# Altium footprint library PEI_PCB_1.1.PcbLib: 310 footprints (part 9 of 20)
Each footprint in its own frame and in the unit in brackets; x right, y up, seen from the top. Pads: shape width x height; smd on the part's side, far side on the other; paste and mask are expansions set on the pad; w line width, h text height; cw(c..) or ccw(c..) is an arc to the next point about the centre after c.
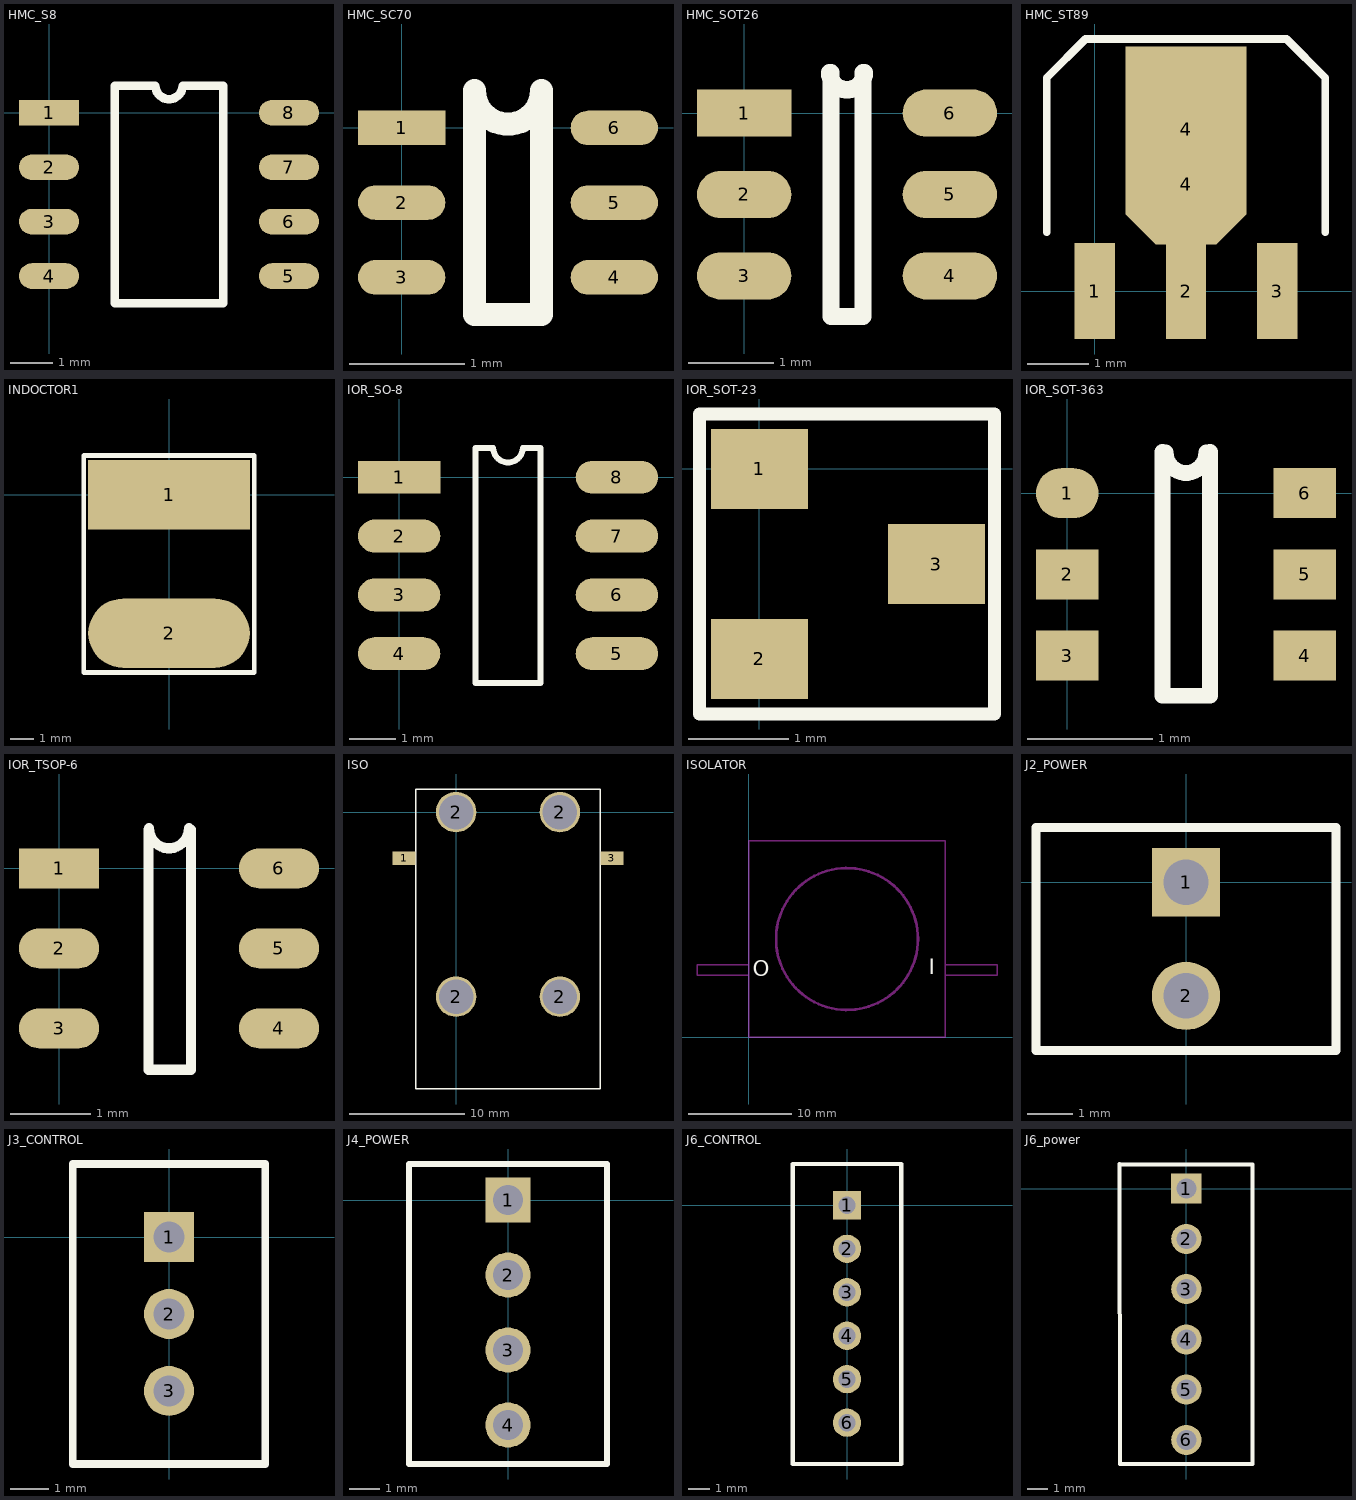
[diagram p8: the footprints below, top view; thin cyan lines are the x and y axes]

## HMC_S8 [mm]
pads (8):
  rect 1.4x0.6 smd: 1(0,0)
  oval 1.4x0.6 smd: 2(0,-1.27) 3(0,-2.54) 4(0,-3.81) 5(5.6,-3.81) 6(5.6,-2.54) 7(5.6,-1.27) 8(5.6,0)
TopOverlay:
  lines w0.2: 1.535,-4.445 1.535,0.635 2.482,0.635 ccw(c2.8,0.635) 3.117,0.635 4.065,0.635 4.065,-4.445 1.535,-4.445

## HMC_SC70 [mm]
pads (6):
  rect 0.76x0.3 smd: 1(0,0)
  oval 0.76x0.3 smd: 2(0,-0.65) 3(0,-1.3) 4(1.85,-1.3) 5(1.85,-0.65) 6(1.85,0)
TopOverlay:
  lines w0.2: 0.633,0.325 ccw(c0.925,0.325) 1.217,0.325 ; 0.635,0.325 0.635,-1.625 1.215,-1.625 1.215,0.325

## HMC_SOT26 [mm]
pads (6):
  rect 1.1x0.55 smd: 1(0,0)
  oval 1.1x0.55 smd: 2(0,-0.95) 3(0,-1.9) 4(2.4,-1.9) 5(2.4,-0.95) 6(2.4,0)
TopOverlay:
  lines w0.2: 0.997,0.475 ccw(c1.2,0.475) 1.403,0.475 ; 1.015,0.475 1.015,-2.375 1.385,-2.375 1.385,0.475

## HMC_ST89 [mil]
pads (5):
  rect 26x62 smd: 1(0,0) 2(59,0) 3(118,0)
  oct 78x78 smd: 4(59,69)
  rect 78x107 smd: 4(59,104.5)
TopOverlay:
  lines w5: -31,38 -31,138 -6,163 6,163 124,163 149,138 149,38

## INDOCTOR1 [mm]
pads (2):
  rect 7x3 smd: 1(0,0)
  oval 7x3 smd: 2(0,-6)
TopOverlay:
  lines w0.2: -3.7,-7.7 3.7,-7.7 3.7,1.7 -3.7,1.7 -3.7,-7.7

## IOR_SO-8 [mil]
pads (8):
  rect 70x28 smd: 1(0,0)
  oval 70x28 smd: 2(0,-50) 3(0,-100) 4(0,-150) 5(185,-150) 6(185,-100) 7(185,-50) 8(185,0)
TopOverlay:
  lines w5: 65,-175 120,-175 120,25 105,25 cw(c92.5,25) 80,25 65,25 65,-175

## IOR_SOT-23 [mm]
pads (3):
  rect 0.972x0.802 smd: 1(0,0) 2(0,-1.9) 3(1.77,-0.95)
TopOverlay:
  lines w0.127: -0.6,-2.45 -0.6,0.55 2.35,0.55 2.35,-2.45 -0.6,-2.45

## IOR_SOT-363 [mm]
pads (6):
  oval 0.5x0.4 smd: 1(0,0)
  rect 0.5x0.4 smd: 2(0,-0.65) 3(0,-1.3) 4(1.9,-1.3) 5(1.9,-0.65) 6(1.9,0)
TopOverlay:
  lines w0.127: 0.762,0.33 0.762,-1.62 1.143,-1.62 1.143,0.33 ; 0.787,0.325 ccw(c0.95,0.325) 1.112,0.325

## IOR_TSOP-6 [mm]
pads (6):
  rect 1x0.5 smd: 1(0,0)
  oval 1x0.5 smd: 2(0,-1) 3(0,-2) 4(2.75,-2) 5(2.75,-1) 6(2.75,0)
TopOverlay:
  lines w0.127: 1.118,0.483 1.118,-2.517 1.651,-2.517 1.651,0.483 ; 1.125,0.5 ccw(c1.375,0.5) 1.625,0.5

## ISO [mm]
pads (6):
  rect 2x1.2 smd: 1(-4.5,-4) 3(13.5,-4)
  round 3.5 hole 3: 2(0,-16) 2(0,0) 2(9,-16) 2(9,0)
TopOverlay:
  lines w0.127: -3.5,-24 12.5,-24 12.5,2 -3.5,2 -3.5,-24

## ISOLATOR [mm]
TopOverlay:
  text "I" at 17.4,6.1 h1.52
  text "O" at 0.4,5.9 h1.52
KeepOutLayer:
  circle w0.254: c9.5,9.5 r6.86
  lines w0.127: 0,6 -5,6 -5,7 0,7 ; 19,6 24,6 24,7 19,7 ; 0,0 19,0 19,19 0,19 0,0

## J2_POWER [mm]
pads (2):
  rect 1.5x1.5 hole 1: 1(0,0)
  round 1.5 hole 1: 2(0,-2.5)
TopOverlay:
  lines w0.2: -3.3,1.2 -3.3,-3.7 3.3,-3.7 3.3,1.2 -3.29,1.2

## J3_CONTROL [mm]
pads (3):
  rect 1.3x1.3 hole 0.8: 1(0,0)
  round 1.3 hole 0.8: 2(0,-2) 3(0,-4)
TopOverlay:
  lines w0.2: -2.5,-5.9 -2.5,1.9 2.5,1.9 2.5,-5.9 -2.5,-5.9

## J4_POWER [mm]
pads (4):
  rect 1.5x1.5 hole 1: 1(0,0)
  round 1.5 hole 1: 2(0,-2.5) 3(0,-5) 4(0,-7.5)
TopOverlay:
  lines w0.2: -3.3,-8.8 -3.3,1.2 ; -3.29,-8.8 3.3,-8.8 3.3,1.2 -3.29,1.2

## J6_CONTROL [mm]
pads (6):
  rect 1.3x1.3 hole 0.8: 1(0,0)
  round 1.3 hole 0.8: 2(0,-2) 3(0,-4) 4(0,-6) 5(0,-8) 6(0,-10)
TopOverlay:
  lines w0.2: -2.5,-11.9 2.5,-11.9 2.5,1.9 -2.5,1.9 -2.5,-11.9

## J6_power [mm]
pads (6):
  rect 1.5x1.5 hole 1: 1(0,0)
  round 1.5 hole 1: 2(0,-2.5) 3(0,-5) 4(0,-7.5) 5(0,-10) 6(0,-12.5)
TopOverlay:
  lines w0.2: -3.332,1.223 -3.3,-13.7 3.3,-13.7 3.3,1.2 -3.3,1.2